# Altium schematic symbol library QR_Scanning_STM32.SchLib: 48 symbols
Pins are listed as number, name and electrical type; pins without a type are passive.

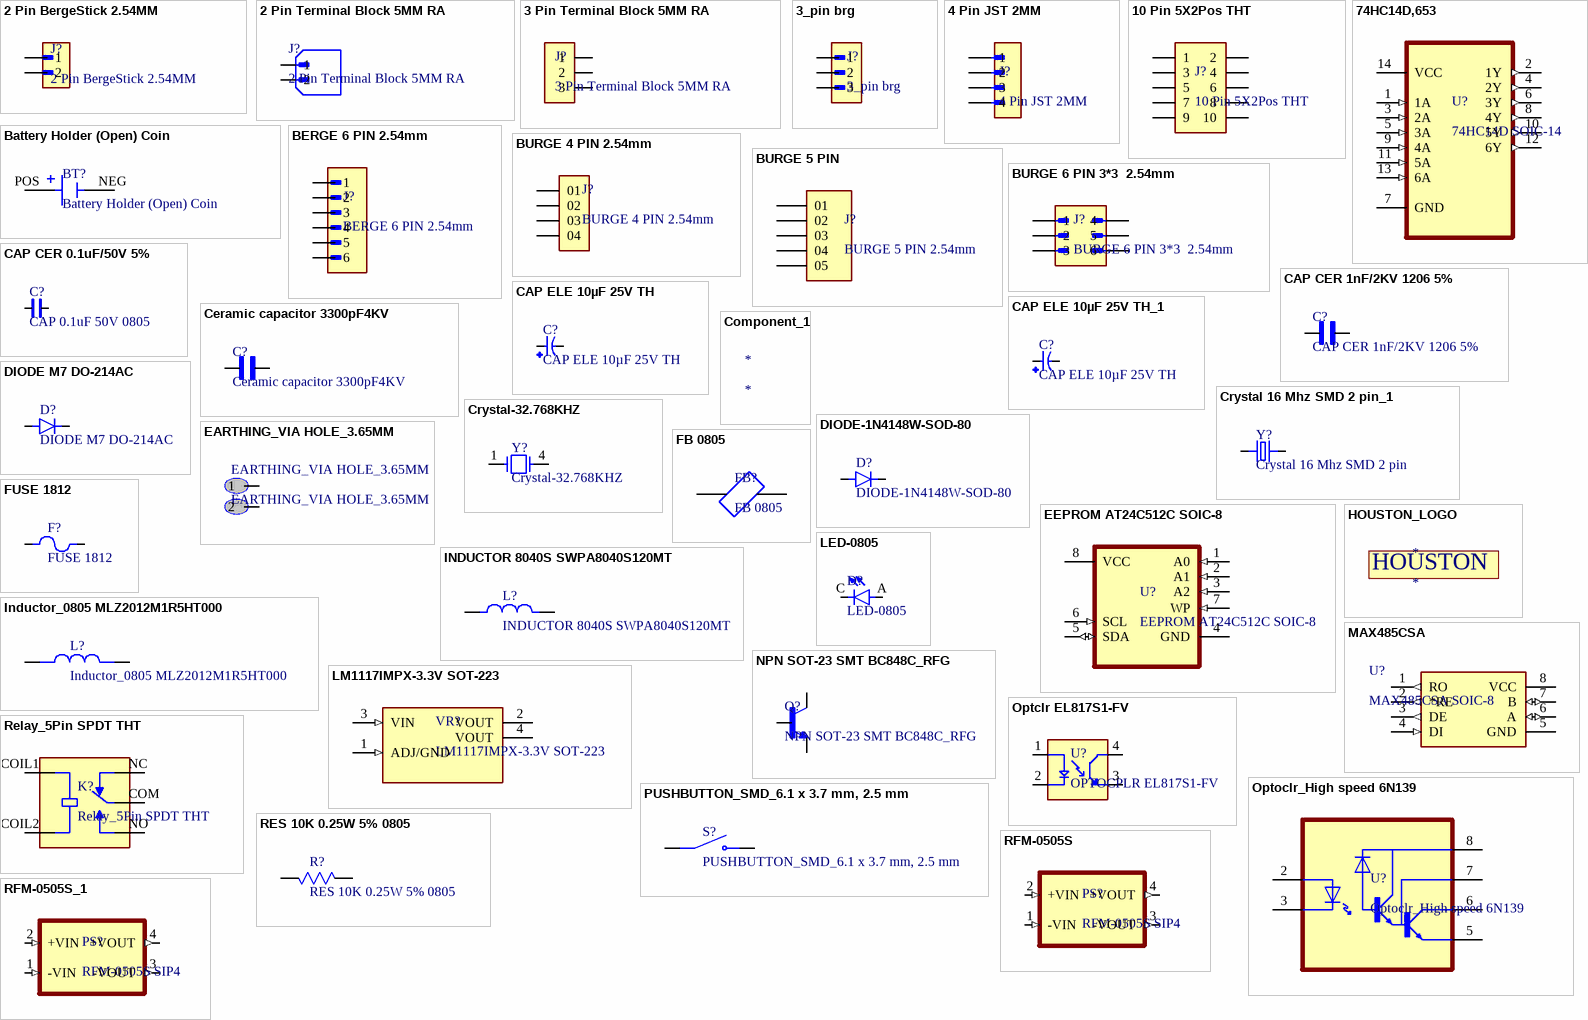
[diagram p0: symbols 2 Pin BergeStick 2.54MM to RFM-0505S_1]

## 2 Pin BergeStick 2.54MM
designator J?
2 Pin 2Pos THT BergeStick 2.54MM Amphenol 68000-402HLF 3A; Package: None; Price: None; Value: *; MP: 68000-402HLF; Availability: Unavailable
footprint 2 Pin BergeStick 2.54MM (2 Pin 2Pos THT BergeStick 2.54MM Amphenol 68000-402HLF 3A AMPHENOL_68000-402HLF)
pins: 1, 2

## 2 Pin Terminal Block 5MM RA
designator J?
2 Pin Terminal Block HDR 5MM THT RA _OQ0271510000G; MF: Amphenol Anytek; SnapEDA_Link: https://www.snapeda.com/parts/OQ0271510000G/Amphenol/view-part/?ref=snap; Package: None; Value: *; MP: OQ0271510000G; Check_prices: https://www.snapeda.com/parts/OQ0271510000G/Amphenol/view-part/?ref=eda
footprint 2 Pin Terminal Block 5MM RA (2 Pin Terminal Block HDR 5MM THT RA_OQ0271510000G)
pins: 1, 2

## 3 Pin Terminal Block 5MM RA
designator J?
3 Pin Terminal Block HDR 5MM THT RA 231-433_001-000; MP: 231-433/001-000; MF: WAGO; SnapEDA_Link: https://www.snapeda.com/parts/231-433/001-000/WAGO/view-part/482062/?ref=snap; Package: None; Availability: Unavailable; Price: None; Value: *
footprint 3 Pin Terminal Block 5MM RA (3 Pin Terminal Block HDR 5MM THT RA 231-433_001-000)
pins: 1, 2, 3

## 3_pin brg
designator J?
3_pin burge 2.54mm; MP: 68001-403HLF; Package: None; Price: None; Value: *; Availability: Unavailable
footprint 3_pin brg (3_pin brg 2.54mm)
pins: 1, 2, 3

## 4 Pin JST 2MM
designator J?
Connector Header Through Hole 4 position 0.079 (2.00mm) B4B-PH-K-S(LF)(SN); MF: JST Sales; SnapEDA_Link: https://www.snapeda.com/parts/B4B-PH-K-S%20(LF)(SN)/JST/view-part/?ref=snap; Package: None; Value: *; MP: B4B-PH-K-S (LF)(SN); Check_prices: https://www.snapeda.com/parts/B4B-PH-K-S%20(LF)(SN)/JST/view-part/?ref=eda
footprint 4 Pin JST 2MM  JST_B4B-PH-K-S(LF)(SN)
pins: 1, 2, 3, 4

## 10 Pin 5X2Pos THT
designator J?
10 Pin 5X2Pos THT BergeStick 2.54MM MTSW-105-X-X-D-X; MF: {'manufacturer': u'Samtec Inc.'}; Package: None; Price: None; Value: *; MP: MTSW-105-X-X-D-X; Availability: Unavailable
footprint 10 Pin 5X2Pos THT (10 Pin 5X2Pos THT BergeStick 2.54MM MTSW-105-X-X-D-X)
pins: 1, 2, 3, 4, 5, 6, 7, 8, 9, 10

## 74HC14D,653
designator U?, comment 74HC14D SOIC-14
Inverter IC 6 Channel Schmitt Trigger 14-SO/SOIC-14; MF: Nexperia USA; MP: 74HC14D,653; SnapEDA_Link: https://www.snapeda.com/parts/74HC14D,653/Nexperia/view-part/?ref=snap; Package: SO14-14 Nexperia USA Inc.; Value: *; Check_prices: https://www.snapeda.com/parts/74HC14D,653/Nexperia/view-part/?ref=eda
footprint 74HC14D SOIC-14 (Inverter IC 6 Channel Schmitt Trigger 14-SO/SOIC-14)
pins: 1 1A (in), 2 1Y (out), 3 2A (in), 4 2Y (out), 5 3A (in), 6 3Y (out), 7 GND, 8 4Y (out), 9 4A (in), 10 5Y (out), 11 5A (in), 12 6Y (out), 13 6A (in), 14 VCC (power)

## Battery Holder (Open) Coin
designator BT?
Battery Holder (Open) Coin, 20.0mm 1 Cell SMD (SMT) Tab, CR2032, BS-7-RED; Package: None; Price: None; Value: *; MP: BS-7-RED; Availability: Unavailable
footprint Battery Holder (Open) Coin
pins: NEG, POS

## BERGE 6 PIN 2.54mm
designator J?
BergStik, Board to Board connector, Unshrouded Vertical Header, Through Hole, Single Row, 6 Positions, 2.54 mm (0.100in) Pitch. 68604-406HLF; MF: AMPHENOL ICC / FCI; SnapEDA_Link: https://www.snapeda.com/parts/68604-406HLF/Amphenol/view-part/?ref=snap; Package: None; Value: *; MP: 68604-406HLF; Check_prices: https://www.snapeda.com/parts/68604-406HLF/Amphenol/view-part/?ref=eda
footprint BERGE 6 PIN 2.54mm (BERGE 6 PIN 2.54mm, AMPHENOL_68604-406HLF)
pins: 1, 2, 3, 4, 5, 6

## BURGE 4 PIN 2.54mm
designator J?
Conn Unshrouded Header HDR 4 POS 2.54mm Solder ST Top Entry Thru-Hole Bulk TSW-104-17-G-S-LL; MF: Samtec; MP: TSW-104-23-H-S-LL; SnapEDA_Link: https://www.snapeda.com/parts/TSW-104-23-H-S-LL/Samtec/view-part/?ref=snap; Package: None; Value: *; Check_prices: https://www.snapeda.com/parts/TSW-104-23-H-S-LL/Samtec/view-part/?ref=eda
footprint BURGE 4 PIN 2.54mm (BURGE 4 PIN 2.54mm TSW-104-X-X-S-LL)
pins: 01, 02, 03, 04

## BURGE 5 PIN
designator J?, comment BURGE 5 PIN 2.54mm
MTSW-105-07-T-S-048 BURGE 5 PIN 2.54mm; MP: MTSW-105-07-T-S-048; Price: None; Package: None; Value: *; Availability: Unavailable
footprint BURGE 5 PIN (MTSW-105-07-T-S-048 BURGE 5 PIN 2.54mm)
pins: 01, 02, 03, 04, 05

## BURGE 6 PIN 3*3  2.54mm
designator J?
BURGE 6 PIN 3*3  2.54mm Positions, Pitch.; MP: 69192-406HLF; MF: AMPHENOL ICC / FCI; Package: None; Digi-Key_Part_Number: 609-4711-ND; Check_prices: https://www.snapeda.com/parts/69192-406HLF/Amphenol/view-part/?ref=eda; Value: *; Purchase-URL: https://pricing.snapeda.com/search/part/69192-406HLF/?ref=eda; SnapEDA_Link: https://www.snapeda.com/parts/69192-406HLF/Amphenol/view-part/?ref=snap
footprint BURGE 6 PIN 3*3  2.54mm (BURGE 6 PIN 3*3  2.54mm Positions, Pitch.)
pins: 1, 2, 3, 4, 5, 6

## CAP CER 0.1uF/50V 5%
designator C?, comment CAP 0.1uF 50V 0805
CAP CER 0.1uF/50V  Ceramic Capacitor X7R 0805 (2012 Metric) SMT; MF: Samsung; MP: CL21B104KCFNNNE; Purchase-URL: https://pricing.snapeda.com/search?q=CL21B104KCFNNNE&ref=eda; Package: 0805 Samsung; Check_prices: https://www.snapeda.com/parts/CL21B104KCFNNNE/Samsung+Electro-Mechanics/view-part/?ref=eda; Value: *; SnapEDA_Link: https://www.snapeda.com/parts/CL21B104KCFNNNE/Samsung+Electro-Mechanics/view-part/?ref=snap; Digi-Key_Part_Number: 1276-6840-2-ND
footprint CAP CER 0.1uF/50V 5%
pins: 1, 2

## CAP CER 1nF/2KV 1206 5%
designator C?
1000 pF Â±10% 2000V (2kV) Ceramic Capacitor X7R 1206 (3216 Metric) C1206C102KGRACAUTO; MF: KEMET; SnapEDA_Link: https://www.snapeda.com/parts/C1206C102KGRACAUTO/KEMET/view-part/?ref=snap; Package: 3216 KEMET; Value: *; MP: C1206C102KGRACAUTO; Check_prices: https://www.snapeda.com/parts/C1206C102KGRACAUTO/KEMET/view-part/?ref=eda
footprint CAP CER 1nF/2KV 1206 5% (1000 pF Â±10% 2000V (2kV) Ceramic Capacitor X7R 1206 (3216 Metric) C1206C102KGRACAUTO)
pins: 1, 2

## CAP ELE 10µF 25V TH
designator C?
10µF 25V Aluminum Electrolytic Capacitors Radial Lead Type THT, Dia-5mm, Pitch-2mm ECEA1EN100UI; MF: Panasonic; Package: RADIAL-2 Panasonic; Purchase-URL: https://pricing.snapeda.com/search/part/ECEA1EN100UI/?ref=eda; Value: *; Digi-Key_Part_Number: ECE-A1EN100UI-ND; SnapEDA_Link: https://www.snapeda.com/parts/ECEA1EN100UI/Panasonic/view-part/5788532/?ref=snap; MP: ECEA1EN100UI; Check_prices: https://www.snapeda.com/parts/ECEA1EN100UI/Panasonic/view-part/5788532/?ref=eda
footprint CAP ELE 10µF 25V TH (10µF 25V Aluminum Electrolytic Capacitors Radial Lead Type TH, Dia-5mm, Pitch-2mm ECEA1EN100UI)
pins: N, P

## CAP ELE 10µF 25V TH_1
designator C?, comment CAP ELE 10µF 25V TH
10µF 25V Aluminum Electrolytic Capacitors Radial Lead Type THT, Dia-5mm, Pitch-2mm ECEA1EN100UI; MF: Panasonic; Package: RADIAL-2 Panasonic; Purchase-URL: https://pricing.snapeda.com/search/part/ECEA1EN100UI/?ref=eda; Value: *; Digi-Key_Part_Number: ECE-A1EN100UI-ND; SnapEDA_Link: https://www.snapeda.com/parts/ECEA1EN100UI/Panasonic/view-part/5788532/?ref=snap; MP: ECEA1EN100UI; Check_prices: https://www.snapeda.com/parts/ECEA1EN100UI/Panasonic/view-part/5788532/?ref=eda
footprint CAP ELE 10µF 25V TH (10µF 25V Aluminum Electrolytic Capacitors Radial Lead Type TH, Dia-5mm, Pitch-2mm ECEA1EN100UI)
pins: N, P

## Ceramic capacitor 3300pF4KV
designator C?
Ceramic capacitor 3300pF4KV, Tension nominale 400Vac(r.m.s.), 4KV ESD, DE2E3SA332MA3BY02F; MF: Murata; Package: NONSTANDARD; Value: *; Purchase-URL: https://pricing.snapeda.com/search/part/DE2E3SA332MA3BY02F/?ref=eda; Availability: Bad; SnapEDA_Link: https://www.snapeda.com/parts/DE2E3SA332MA3BY02F/Murata/view-part/2799752/?ref=snap; Price: None; MP: DE2E3SA332MA3BY02F; Check_prices: https://www.snapeda.com/parts/DE2E3SA332MA3BY02F/Murata/view-part/2799752/?ref=eda
footprint Ceramic capacitor 3300pF4KV (Ceramic capacitor 3300pF4KV, Tension nominale 400Vac(r.m.s.), 4KV ESD, DE2E3SA332MA3BY02F)
pins: 1, 2

## Component_1
designator *

## Crystal 16 Mhz SMD 2 pin_1
designator Y?, comment Crystal 16 Mhz SMD 2 pin
16 MHz Â±30ppm Crystal 20pF 60 Ohms HC-49/US FOXSDLF/128-20 16 Mhz Crystal SMD –CSM-4ALX(28ALX) 12.5mmX4.85mmX4mm; MF: Fox Electronics; SnapEDA_Link: https://www.snapeda.com/parts/FOXSDLF/128-20/Fox+Electronics/view-part/?ref=snap; Package: HC49SD Fox Electronics; Value: *; MP: FOXSDLF/128-20; Check_prices: https://www.snapeda.com/parts/FOXSDLF/128-20/Fox+Electronics/view-part/?ref=eda
footprint Crystal 16 Mhz SMD 2 pin (16 MHz Â±30ppm Crystal 20pF 60 Ohms HC-49/US FOXSDLF/128-20 16 Mhz Crystal SMD –CSM-4ALX(28ALX) 12.5mmX4.85mmX4mm)
footprint Crystal 16 Mhz SMD 2 pin (16 MHz Â±30ppm Crystal 20pF 60 Ohms HC-49/US FOXSDLF/128-20 16 Mhz Crystal SMD –CSM-4ALX(28ALX) 12.5mmX4.85mmX4mm)
pins: 1, 2

## Crystal-32.768KHZ
designator Y?
32.768 kHz Â±20ppm Crystal 6pF 50 kOhms 4-SOJ, 5.50mm pitch ABS25-32.768KHZ-6-T; MF: Abracon; SnapEDA_Link: https://www.snapeda.com/parts/ABS25-32.768KHZ-6-T/Abracon/view-part/?ref=snap; Package: 4-4 Abracon; Value: *; MP: ABS25-32.768KHZ-6-T; Check_prices: https://www.snapeda.com/parts/ABS25-32.768KHZ-6-T/Abracon/view-part/?ref=eda
footprint Crystal-32.768KHZ (32.768 kHz Â±20ppm Crystal 6pF 50 kOhms 4-SOJ, 5.50mm pitch ABS25-32.768KHZ-6-T)
pins: 1, 4

## DIODE M7 DO-214AC
designator D?
M7 General Purpose SMD Rectifier Diode SMA (DO-214AC) 1A 1000V 1n4007 RS2MA; MF: Taiwan Semiconductor; SnapEDA_Link: https://www.snapeda.com/parts/RS2MA/Taiwan+Semiconductor/view-part/?ref=snap; Package: DO-214AC-2 Taiwan Semiconductor; Value: *; MP: RS2MA; Check_prices: https://www.snapeda.com/parts/RS2MA/Taiwan+Semiconductor/view-part/?ref=eda
footprint DIODE M7 DO-214AC (M7 General Purpose SMD Rectifier Diode SMA (DO-214AC) 1A 1000V 1n4007  DIOM4325X250N)
pins: A, C K

## DIODE-1N4148W-SOD-80
designator D?
DIODE-1N4148W-SOD-80 is a general-purpose silicon diode LL4148_L1G; MP: LL4148_L1G; Price: None; Package: None; Availability: Unavailable; Value: *
footprint DIODE-1N4148W-SOD-80 (DIODE-1N4148W-SOD-80 is a general-purpose silicon diode LL4148_L1G)
pins: A, C K

## EARTHING_VIA HOLE_3.65MM
designator EARTHING_VIA HOLE_3.65MM
footprint EARTHING_VIA HOLE_3.65MM (EARTHING VIA HOLE 3.65MM)
pins: 1, 2

## EEPROM AT24C512C SOIC-8
designator U?
EEPROM Memory IC 512Kb (64K x 8) IÂ²C 400 kHz 900 ns SOIC-8 AT24C512C-SSHM-T; MF: Microchip; SnapEDA_Link: https://www.snapeda.com/parts/AT24C512C-SSHM-T/Microchip/view-part/?ref=snap; Package: SO-8 Microchip; Value: *; MP: AT24C512C-SSHM-T; Check_prices: https://www.snapeda.com/parts/AT24C512C-SSHM-T/Microchip/view-part/?ref=eda
footprint EEPROM AT24C512C SOIC-8 (EEPROM Memory IC 512Kb (64K x 8) IÂ²C 400 kHz 900 ns SOIC-8 AT24C512C-SSHM-T)
pins: 1 A0 (in), 2 A1 (in), 3 A2 (in), 4 GND, 5 SDA (io), 6 SCL (in), 7 WP (in), 8 VCC (power)

## FB 0805
designator FB?
MH2029-101Y-Bourns Inc.-Ferrite Bead, 100 Ohms @ 100 MHz , Signal Line Ferrite Bead 0805 (2012 Metric) 2A 100mOhm; MP: MPZ2012S102AT000; Package: None; Price: None; Value: *; Availability: Unavailable
footprint FB 0805 (BLM21AG331SN1D-Murata-Ferrite Beads Multi-Layer 330Ohm 25% 100MHz 0.8A 0.15Ohm DCR 0805 T/R)
pins: 1, 2

## FUSE 1812
designator F?
Polymeric PTC Resettable Fuse 60V 100 mA Ih Surface Mount 1812 (4532 Metric), Concave, MF-MSMF010-2; MF: Bourns; Price: None; Availability: In Stock; MP: MF-MSMF010-2; Package: 1812 Bourns; SnapEDA_Link: https://www.snapeda.com/parts/MF-MSMF010-2/Bourns/view-part/?ref=snap; Check_prices: https://www.snapeda.com/parts/MF-MSMF010-2/Bourns/view-part/?ref=eda; Value: *; Purchase-URL: https://pricing.snapeda.com/search/part/MF-MSMF010-2/?ref=eda
footprint FUSE 1812 (Polymeric PTC Resettable Fuse 60V 100 mA Ih Surface Mount 1812 (4532 Metric), Concave, MF-MSMF010-2)
pins: 1, 2

## HOUSTON_LOGO
designator *
footprint HOUSTON_LOGO
text: HOUSTON

## INDUCTOR 8040S SWPA8040S120MT
designator L?
SWPA8040S120MT SMD 8.0×8.0x4.0mm 8040S 12uH Â±20% 2.8A 142 mOhm SMT Shielded Wirewound Inductor; MF: Abracon LLC; MP: ASPI-8040S-510M-T; Purchase-URL: https://pricing.snapeda.com/search/part/ASPI-8040S-510M-T/?ref=eda; Value: *; SnapEDA_Link: https://www.snapeda.com/parts/ASPI-8040S-510M-T/Abracon+LLC/view-part/?ref=snap; Package: Nonstandard Abracon LLC; Check_prices: https://www.snapeda.com/parts/ASPI-8040S-510M-T/Abracon+LLC/view-part/?ref=eda; Availability: In Stock; Price: None
footprint INDUCTOR 8040S SWPA8040S120MT
pins: 1, 2

## Inductor_0805 MLZ2012M1R5HT000
designator L?
10µH Shielded Multilayer Inductor 500mA 680mOhm 0805 (2012 Metric)MLZ2012M1R5HT000; MF: {'manufacturer': u'TDK Corporation'}; MP: MLZ2012M100HT000; Package: None; Price: None; Value: *; Availability: Unavailable
footprint Inductor_0805 (Inductor_0805 MLZ2012M1R5HT000)
pins: 1, 2

## LED-0805
designator D?
Red 640nm LED Indication - Discrete 1.85V 0805 (2012 Metric) SMT APT2012SRCPRV; MF: Kingbright; SnapEDA_Link: https://www.snapeda.com/parts/APT2012SRCPRV/Kingbright/view-part/?ref=snap; Package: 0805 Kingbright; Value: *; MP: APT2012SRCPRV; Check_prices: https://www.snapeda.com/parts/APT2012SRCPRV/Kingbright/view-part/?ref=eda
footprint LED-0805 (Red 640nm LED Indication - Discrete 1.85V 0805 (2012 Metric) APT2012SRCPRV)
pins: A, C

## LM1117IMPX-3.3V SOT-223
designator VR?
LM1117IMPX-3.3V 800-mA 15-V linear voltage regulator SOT-223; MF: Texas Instruments; MP: LM1117IMPX-5.0/NOPB; SnapEDA_Link: https://www.snapeda.com/parts/LM1117IMPX-5.0/NOPB/Texas+Instruments/view-part/?ref=snap; Package: SOT-223-4 Texas Instruments; Value: *; Check_prices: https://www.snapeda.com/parts/LM1117IMPX-5.0/NOPB/Texas+Instruments/view-part/?ref=eda
footprint LM1117IMPX-3.3V SOT-223 (LM1117IMPX-3.3V 800-mA 15-V linear voltage regulator SOT230P700X180-4N)
pins: 1 ADJ/GND (in), 2 VOUT (power), 3 VIN (in), 4 VOUT (power)

## MAX485CSA
designator U?, comment MAX485CSA SOIC-8
MAX485CSA-RS-485/RS-422 Transceivers, SOIC-8; MF: Analog Devices; MP: MAX485CSA+; SnapEDA_Link: https://www.snapeda.com/parts/MAX485CSA+/Analog+Devices/view-part/?ref=snap; Package: SOIC-8 Maxim; Value: *; Check_prices: https://www.snapeda.com/parts/MAX485CSA+/Analog+Devices/view-part/?ref=eda
footprint MAX485CSA (MAX485CSA-RS-485/RS-422 Transceivers, SOIC-8)
pins: 1 RO (out), 2 *RE (out), 3 DE (out), 4 DI (in), 5 GND (power), 6 A (io), 7 B (io), 8 VCC (power)

## NPN SOT-23 SMT BC848C_RFG
designator Q?
NPN SMT BC848C_RFG SOT-23, 30V, 0.1A, NPN Transistor; MF: Taiwan Semiconductor; MP: BC848C RFG; SnapEDA_Link: https://www.snapeda.com/parts/BC848C%20RFG/Taiwan+Semiconductor/view-part/?ref=snap; Package: SOT-23 Taiwan Semiconductor; Value: *; Check_prices: https://www.snapeda.com/parts/BC848C%20RFG/Taiwan+Semiconductor/view-part/?ref=eda
footprint NPN SOT-23 SMT BC848C_RFG (NPN SOT-23 SMT BC848C_RFG SOT95P237X112-3N)
pins: 1 B, 2 E, 3 C

## Optclr EL817S1-FV
designator U?, comment OPTOCPLR EL817S1-FV
Optoisoltr 5kv Transistor 4-Smd EL817S1-FV; MF: {'manufacturer': u'Everlight Electronics Co Ltd'}; MP: EL817S1(A)(TU)-V; Package: None; Price: None; Value: *; Availability: Unavailable
footprint OPTOCPLR EL817S1-FV (OPTOCPLR EL817S1 SOIC254P1030X390-4N_EL817S1-FV)
pins: 1 A, 2 C, 3 ET, 4 CT

## Optoclr_High speed 6N139
designator U?
Optoisolator Darlington with Base Output 5000Vrms 1 Channel 8-DIP Optoclr_High speed 6N139; MF: ON Semiconductor; MP: 6N139VM; SnapEDA_Link: https://www.snapeda.com/parts/6N139VM/Onsemi/view-part/?ref=snap; Package: PDIP-8-8 ON Semiconductor; Value: *; Check_prices: https://www.snapeda.com/parts/6N139VM/Onsemi/view-part/?ref=eda
footprint Optoclr_High speed 6N139 (Optoclr_High speed 6N139 DIP-8)
pins: 2 A, 3 C, 5 GND (power), 6 VO, 7 VB, 8 VCC (power)

## PUSHBUTTON_SMD_6.1 x 3.7 mm, 2.5 mm
designator S?
6.1 x 3.7 mm, 2.5 mm Actuator Height, 260 gf, Red, Surface Mount, SPST, Tactile Switch, TS09-63-25-R-260-SMT-TR; MF: Same Sky; SnapEDA_Link: https://www.snapeda.com/parts/TS09-63-25-R-260-SMT-TR/Same+Sky/view-part/?ref=snap; Package: None; Value: *; MP: TS09-63-25-R-260-SMT-TR; Check_prices: https://www.snapeda.com/parts/TS09-63-25-R-260-SMT-TR/Same+Sky/view-part/?ref=eda
footprint PUSHBUTTON_SMD_6.1 x 3.7 mm, 2.5 mm (6.1 x 3.7 mm, 2.5 mm Actuator Height, 260 gf, Red, Surface Mount, SPST, Tactile Switch, TS09-63-25-R-260-SMT-TR)
pins: 1, 2

## Relay_5Pin SPDT THT
designator K?
Relays General Purpose Non Latching 3VDC SPDT 10A (250VAC) Max 5PIN SRD-03VDC-SL-C; MF: Songle Relay; SnapEDA_Link: https://www.snapeda.com/parts/SRD-03VDC-SL-C/Songle+Relay/view-part/?ref=snap; Package: NON STANDARD-5 Songle Relay; Value: *; MP: SRD-03VDC-SL-C; Check_prices: https://www.snapeda.com/parts/SRD-03VDC-SL-C/Songle+Relay/view-part/?ref=eda
footprint Relay_5Pin SPDT THT (Relay_5Pin SPDT THT RELAY_SRD-03VDC-SL-C)
pins: COIL1, COIL2, COM, NC, NO

## RES 10K 0.25W 5% 0805
designator R?
RESISTOR, THICK FILM, 10K, 5%, 0805 0.25W SMT; MP: ERJ-6GEYJ103V; MF: Panasonic Electronic; Price: None; Check_prices: https://www.snapeda.com/parts/ERJ-6GEYJ103V/Panasonic+Electronic+Components/view-part/?ref=eda; Package: 805-2 Panasonic; Purchase-URL: https://pricing.snapeda.com/search/part/ERJ-6GEYJ103V/?ref=eda; Availability: In Stock; SnapEDA_Link: https://www.snapeda.com/parts/ERJ-6GEYJ103V/Panasonic+Electronic+Components/view-part/?ref=snap; Value: *
footprint RES 0805 10K/0.25W 5% (RESISTOR, THICK FILM, 10K, 5%, 0805, FRESISTOR, THICK FILM, 10K, 5%, 0805, FULL REEL Product Range:PANASONIC - ERJ Series)
pins: 1, 2

## RFM-0505S
designator PS?, comment RFM-0505S SIP4
DC-DC Converter/Isolator, SIP4, THT, 1kV unreg, Single Output, 1W, 5V Out, RFM Series | RECOM Power Inc. RFM-0505S; SnapEDA_Link: https://www.snapeda.com/parts/RFM-0505S/Recom+Power/view-part/?ref=snap; Package: SIP-4 Recom Power; Value: *; MF: Recom Power; MP: RFM-0505S; Check_prices: https://www.snapeda.com/parts/RFM-0505S/Recom+Power/view-part/?ref=eda
footprint RFM-0505S (DC-DC Converter/Isolator, SIP4, 1kV unreg, Single Output, 1W, 5V Out, RFM Series RFM-0505S)
pins: 1 -VIN (in), 2 +VIN (in), 3 -VOUT (out), 4 +VOUT (out)

## RFM-0505S_1
designator PS?, comment RFM-0505S SIP4
DC-DC Converter/Isolator, SIP4, THT, 1kV unreg, Single Output, 1W, 5V Out, RFM Series | RECOM Power Inc. RFM-0505S; SnapEDA_Link: https://www.snapeda.com/parts/RFM-0505S/Recom+Power/view-part/?ref=snap; Package: SIP-4 Recom Power; Value: *; MF: Recom Power; MP: RFM-0505S; Check_prices: https://www.snapeda.com/parts/RFM-0505S/Recom+Power/view-part/?ref=eda
footprint RFM-0505S (DC-DC Converter/Isolator, SIP4, 1kV unreg, Single Output, 1W, 5V Out, RFM Series RFM-0505S)
pins: 1 -VIN (in), 2 +VIN (in), 3 -VOUT (out), 4 +VOUT (out)

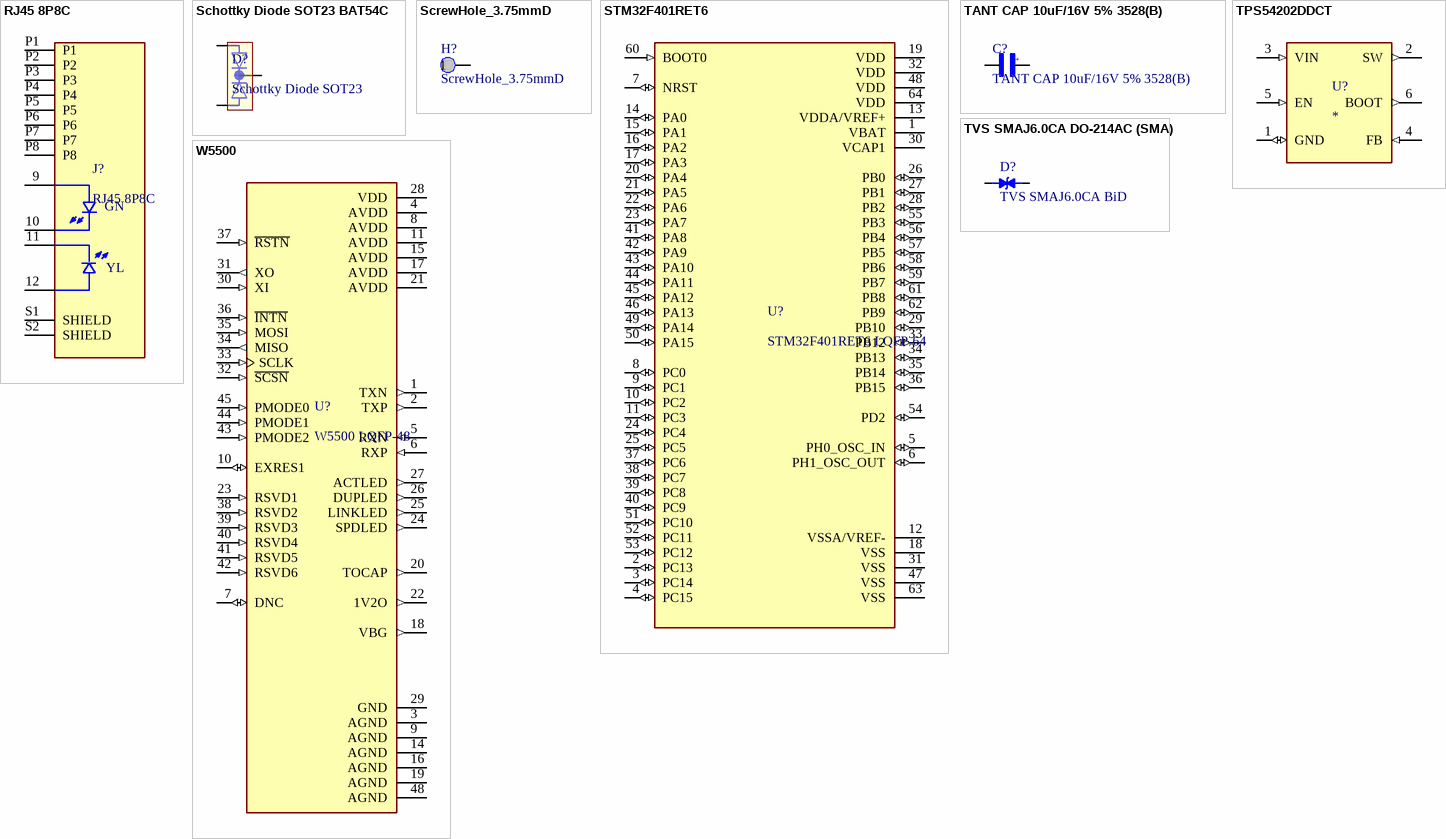
[diagram p1: symbols RJ45 8P8C to W5500]

## RJ45 8P8C
designator J?
10/100 BaseT, 8P8C, Horizontal, Shielded, LED, Through Hole, 6 Âµin Plating, RJ45 with Integrated Magnetics Modular Connector CRJ011-ML1-TH; MF: Same Sky; SnapEDA_Link: https://www.snapeda.com/parts/CRJ011-ML1-TH/Same+Sky/view-part/?ref=snap; Package: None; Value: *; MP: CRJ011-ML1-TH; Check_prices: https://www.snapeda.com/parts/CRJ011-ML1-TH/Same+Sky/view-part/?ref=eda
footprint RJ45 8P8C (RJ45 8P8C CUI_CRJ011-ML1-TH)
pins: 9, 10, 11, 12, P1, P2, P3, P4, P5, P6, P7, P8, S1 SHIELD, S2 SHIELD
text: GN; YL

## Schottky Diode SOT23 BAT54C
designator D?, comment Schottky Diode SOT23
Schottky Diode 2x ComCath 0.2A 30V SOT23 | Diodes Inc BAT54C; MF: Diodes Inc.; MP: BAT54C-7-F; SnapEDA_Link: https://www.snapeda.com/parts/BAT54C-7-F/Diodes+Inc./view-part/?ref=snap; Package: SOT-23 Diodes Inc.; Value: *; Check_prices: https://www.snapeda.com/parts/BAT54C-7-F/Diodes+Inc./view-part/?ref=eda
footprint Schottky Diode SOT23 BAT54C
pins: 1 A1, 2 A2, 3 C

## ScrewHole_3.75mmD
designator H?
SCREW HEAD DIA 4.5MM, SREW LEG DIA 3 MM
footprint ScrewHole_3.75mmD - duplicate (SCREW HEAD DIA 4.5MM, SREW LEG DIA 3 MM)
pins: 1

## STM32F401RET6
designator U?, comment STM32F401RET6 LQFP-64
ARMÂ® CortexÂ®-M4 STM32F4 Microcontroller IC 32-Bit Single-Core 84MHz 512KB (512K x 8) FLASH 64-LQFP (10x10); MF: STMicroelectronics; SnapEDA_Link: https://www.snapeda.com/parts/STM32F401RET6/STMicroelectronics/view-part/?ref=snap; Package: LQFP-64 STMicroelectronics; Value: *; MP: STM32F401RET6; Check_prices: https://www.snapeda.com/parts/STM32F401RET6/STMicroelectronics/view-part/?ref=eda
footprint STM32F401RE Cortex-M4 (ARMÂ® CortexÂ®-M4 STM32F4 Microcontroller IC 32-Bit Single-Core 84MHz 512KB (512K x 8) FLASH 64-LQFP (10x10))
pins: 1 VBAT (power), 2 PC13 (io), 3 PC14 (io), 4 PC15 (io), 5 PH0_OSC_IN (io), 6 PH1_OSC_OUT (io), 7 NRST (io), 8 PC0 (io), 9 PC1 (io), 10 PC2 (io), 11 PC3 (io), 12 VSSA/VREF- (power), 13 VDDA/VREF+ (power), 14 PA0 (io), 15 PA1 (io), 16 PA2 (io), 17 PA3 (io), 18 VSS (power), 19 VDD (power), 20 PA4 (io), 21 PA5 (io), 22 PA6 (io), 23 PA7 (io), 24 PC4 (io), 25 PC5 (io), 26 PB0 (io), 27 PB1 (io), 28 PB2 (io), 29 PB10 (io), 30 VCAP1 (power), 31 VSS (power), 32 VDD (power), 33 PB12 (io), 34 PB13 (io), 35 PB14 (io), 36 PB15 (io), 37 PC6 (io), 38 PC7 (io), 39 PC8 (io), 40 PC9 (io), 41 PA8 (io), 42 PA9 (io), 43 PA10 (io), 44 PA11 (io), 45 PA12 (io), 46 PA13 (io), 47 VSS (power), 48 VDD (power), 49 PA14 (io), 50 PA15 (io), 51 PC10 (io), 52 PC11 (io), 53 PC12 (io), 54 PD2 (io), 55 PB3 (io), 56 PB4 (io), 57 PB5 (io), 58 PB6 (io), 59 PB7 (io), 60 BOOT0 (in), 61 PB8 (io), 62 PB9 (io), 63 VSS (power), 64 VDD (power)

## TANT CAP 10uF/16V 5% 3528(B)
designator C?
10 ÂµF Molded Tantalum Polymer Capacitor 25 V 1411 (3528 Metric), 1210 150mOhm TCJB106M025R0150; MF: AVX; SnapEDA_Link: https://www.snapeda.com/parts/TCJB106M025R0150/AVX/view-part/?ref=snap; Package: 1210 AVX; Value: *; MP: TCJB106M025R0150; Check_prices: https://www.snapeda.com/parts/TCJB106M025R0150/AVX/view-part/?ref=eda
footprint TANT CAP 3528(B) (10 ÂµF Molded Tantalum Polymer Capacitor 25 V 1411 (3528 Metric), 1210 150mOhm TCJB106M025R0150)
pins: 1, 2
text: +

## TPS54202DDCT
designator U?
4.5V to 28V Input, 2A Output, EMI Friendly Synchronous Step-Down Converter SOT23-6; MF: Texas Instruments; MP: TPS54202DDCT; SnapEDA_Link: https://www.snapeda.com/parts/TPS54202DDCT/Texas+Instruments/view-part/?ref=snap; Package: SOT-23-THN-6 Texas Instruments; Value: *; Check_prices: https://www.snapeda.com/parts/TPS54202DDCT/Texas+Instruments/view-part/?ref=eda
footprint TPS54202DDCT (4.5V to 28V Input, 2A Output, EMI Friendly Synchronous Step-Down Converter SOT23-6)
pins: 1 GND (io), 2 SW (out), 3 VIN (in), 4 FB (in), 5 EN (in), 6 BOOT (out)

## TVS SMAJ6.0CA DO-214AC (SMA)
designator D?, comment TVS SMAJ6.0CA BiD
SMAJ6.0CA WG Bidirectional TVS diode littlefuse DO-214AC (SMA); MP: SMAJ7.5CA; Availability: Unavailable; Package: None; Value: *; Price: None
footprint TVS SMAJ6.0CA DO-214AC (SMA) (SMAJ6.0CA WG Bidirectional TVS diode littlefuse DO-214AC (SMA))
pins: 1, 2

## W5500
designator U?, comment W5500 LQFP-48
W5500 LQFP-48 Hardwired TCP/IP embedded Ethernet controller; Availability: Unavailable; MP: W5500; Value: *; Price: None; Package: None
footprint W5500 LQFP-48 (W5500 LQFP-48 Hardwired TCP/IP embedded Ethernet controller QFP50P900X900X160-48N)
pins: 1 TXN (out), 2 TXP (out), 3 AGND (power), 4 AVDD (power), 5 RXN (in), 6 RXP (in), 7 DNC (io), 8 AVDD (power), 9 AGND (power), 10 EXRES1 (io), 11 AVDD (power), 14 AGND (power), 15 AVDD (power), 16 AGND (power), 17 AVDD (power), 18 VBG (out), 19 AGND (power), 20 TOCAP (out), 21 AVDD (power), 22 1V2O (out), 23 RSVD1 (in), 24 SPDLED (out), 25 LINKLED (out), 26 DUPLED (out), 27 ACTLED (out), 28 VDD (power), 29 GND, 30 XI (in), 31 XO (out), 32 ~{SCSN} (in), 33 SCLK (in), 34 MISO (out), 35 MOSI (in), 36 ~{INTN} (in), 37 ~{RSTN} (in), 38 RSVD2 (in), 39 RSVD3 (in), 40 RSVD4 (in), 41 RSVD5 (in), 42 RSVD6 (in), 43 PMODE2 (in), 44 PMODE1 (in), 45 PMODE0 (in), 48 AGND (power)